# Altium footprint library SOP15P65_490X600X95L67X25T400X265N.PcbLib: 1 footprints
Each footprint in its own frame and in the unit in brackets; x right, y up, seen from the top. Pads: shape width x height; smd on the part's side, far side on the other; paste and mask are expansions set on the pad; w line width, h text height; cw(c..) or ccw(c..) is an arc to the next point about the centre after c.
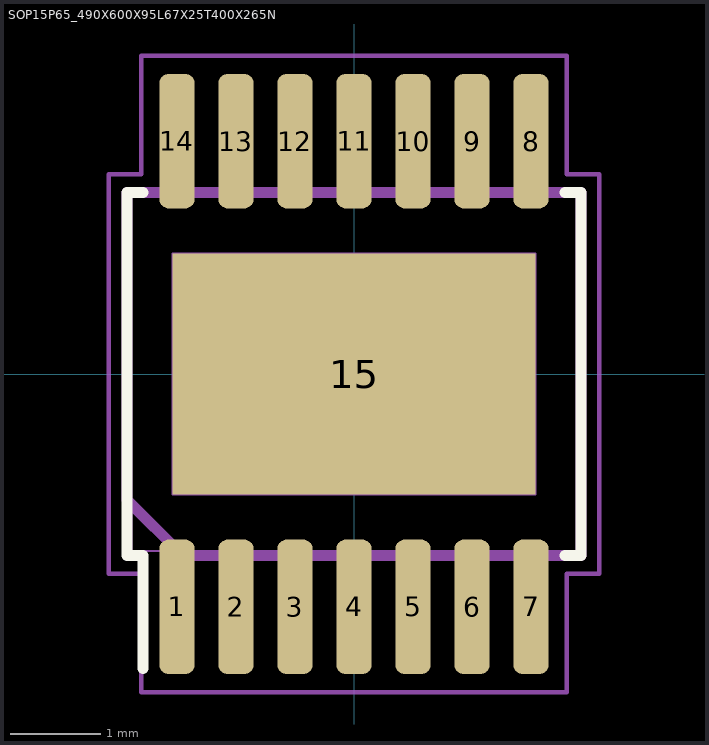
[diagram p0: the footprint, top view; thin cyan lines are the x and y axes]

## SOP15P65_490X600X95L67X25T400X265N [mm] "Small Outline Pkg (SOP with Tab), 0.65 mm pitch; 14 pin, 4.90 mm L X 3.90 mm W X 0.95 mm H body"
height 0.95
pads (15):
  rrect51% 0.39x1.48 smd: 1(-1.95,-2.565) 2(-1.3,-2.565) 3(-0.65,-2.565) 4(0,-2.565) 5(0.65,-2.565) 6(1.3,-2.565) 7(1.95,-2.565) 8(1.95,2.565) 9(1.3,2.565) 10(0.65,2.565) 11(0,2.565) 12(-0.65,2.565) 13(-1.3,2.565) 14(-1.95,2.565)
  rect 4x2.65 smd paste-4: 15(0,0)
Top Overlay:
  lines w0.12: -2.325,-3.245 -2.325,-2 -2.5,-2 -2.5,2 -2.325,2 ; 2.325,-2 2.5,-2 2.5,2 2.325,2
Top Paste:
  region: -0.23,0.23 -1.77,0.23 -1.77,1.09 -0.23,1.09
  region: -0.23,-1.09 -1.77,-1.09 -1.77,-0.23 -0.23,-0.23
  region: 1.77,0.23 0.23,0.23 0.23,1.09 1.77,1.09
  region: 1.77,-1.09 0.23,-1.09 0.23,-0.23 1.77,-0.23
Mechanical 3:
  lines w0.12: -2.5,-1.386 -2.5,2 2.5,2 2.5,-2 -1.886,-2 -2.5,-1.386
Mechanical 5:
  lines w0.025: -2.45,-1.95 2.45,-1.95 2.45,1.95 -2.45,1.95 -2.45,-1.95 ; -2.075,-3 -2.075,-2.33 -1.825,-2.33 -1.825,-3 -2.075,-3 ; -2.075,2.33 -2.075,3 -1.825,3 -1.825,2.33 -2.075,2.33 ; -2,-1.325 -2,1.325 2,1.325 2,-1.325 -2,-1.325 ; -1.425,-3 -1.425,-2.33 -1.175,-2.33 -1.175,-3 -1.425,-3 ; -1.425,2.33 -1.425,3 -1.175,3 -1.175,2.33 -1.425,2.33 ; -0.775,-3 -0.775,-2.33 -0.525,-2.33 -0.525,-3 -0.775,-3 ; -0.775,2.33 -0.775,3 -0.525,3 -0.525,2.33 -0.775,2.33 ; -0.125,-3 -0.125,-2.33 0.125,-2.33 0.125,-3 -0.125,-3 ; -0.125,2.33 -0.125,3 0.125,3 0.125,2.33 -0.125,2.33 ; 0.525,-3 0.525,-2.33 0.775,-2.33 0.775,-3 0.525,-3 ; 0.525,2.33 0.525,3 0.775,3 0.775,2.33 0.525,2.33 ; 1.175,-3 1.175,-2.33 1.425,-2.33 1.425,-3 1.175,-3 ; 1.175,2.33 1.175,3 1.425,3 1.425,2.33 1.175,2.33 ; 1.825,-3 1.825,-2.33 2.075,-2.33 2.075,-3 1.825,-3 ; 1.825,2.33 1.825,3 2.075,3 2.075,2.33 1.825,2.33
Mechanical 7:
  circle w0.05: c0,0 r0.25
  lines w0.05: -0.35,0 0.35,0 ; 0,-0.35 0,0.35 ; -2.7,-2.2 -2.345,-2.2 -2.345,-3.505 2.345,-3.505 2.345,-2.2 2.7,-2.2 2.7,2.2 2.345,2.2 2.345,3.505 -2.345,3.505 -2.345,2.2 -2.7,2.2 -2.7,-2.2
Mechanical 9:
  text "'.Designator'" at -5.537,-0.66 h1
3D body: height 0.03, standoff 0, extent -2.692,-3.505 2.692,3.505
3D body "SOP15P65_490X600X95L67X25T400X265.STEP": height 0.95, standoff 0, extent -2.45,-3 2.45,3
3D body: height 1.04, standoff 0, extent -2.7,-3.505 2.7,3.505